# Altium footprint library PCBFootprint_SMD.PcbLib: 197 footprints (part 7 of 13)
Each footprint in its own frame and in the unit in brackets; x right, y up, seen from the top. Pads: shape width x height; smd on the part's side, far side on the other; paste and mask are expansions set on the pad; w line width, h text height; cw(c..) or ccw(c..) is an arc to the next point about the centre after c.
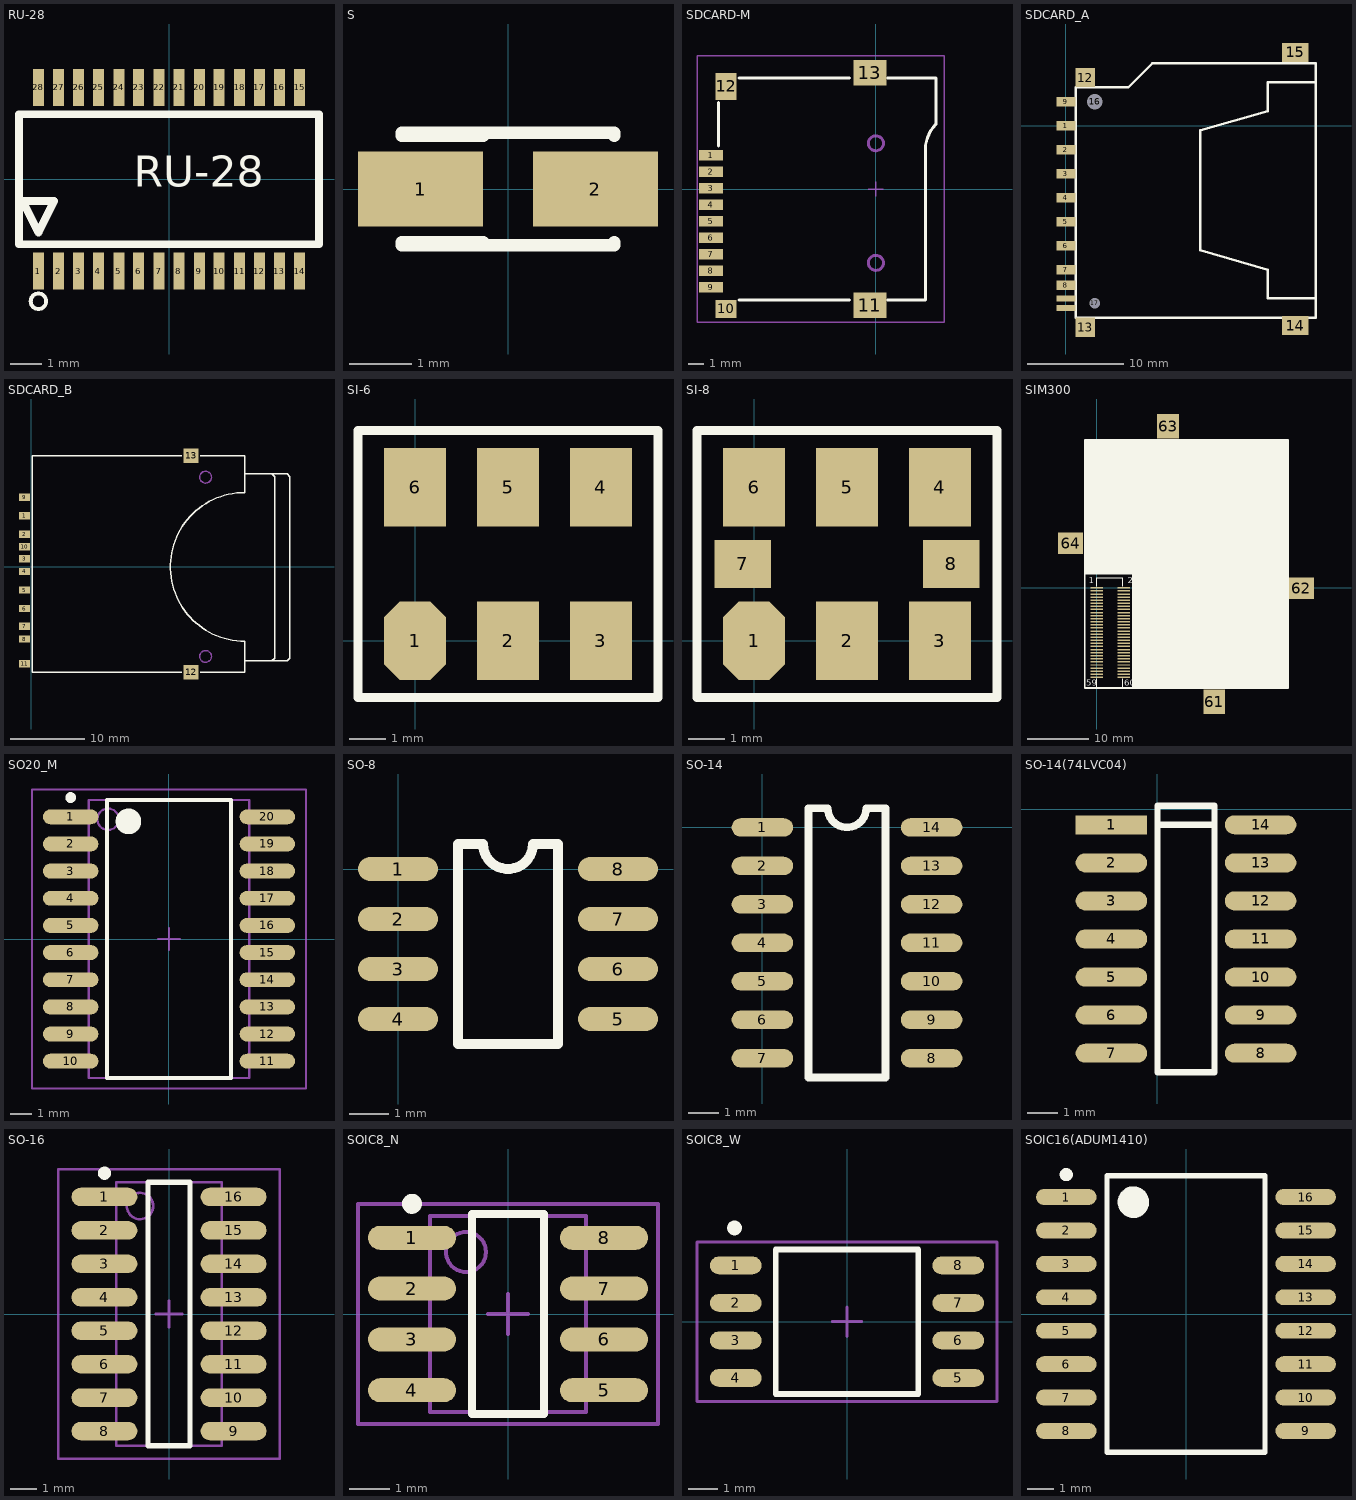
[diagram p6: the footprints below, top view; thin cyan lines are the x and y axes]

## RU-28 [mil]
pads (28):
  rect 14.2x46.9 smd: 1(-166.5,-116.67) 2(-141,-116.67) 3(-115.4,-116.67) 4(-90.2,-116.67) 5(-64.2,-116.67) 6(-39,-116.67) 7(-13,-116.67) 8(12.2,-116.67) 9(38.2,-116.67) 10(63.4,-116.67) 11(89.4,-116.67) 12(114.6,-116.67) 13(140.2,-116.67) 14(165.7,-116.67) 15(165.7,117.13) 16(140.2,117.13) 17(114.6,117.13) 18(89.4,117.13) 19(63.4,117.13) 20(38.2,117.13) 21(12.2,117.13) 22(-13,117.13) 23(-39,117.13) 24(-64.2,117.13) 25(-90.2,117.13) 26(-115.4,117.13) 27(-141,117.13) 28(-166.5,117.13)
Top Overlay:
  lines w5: -176.4,-155.02 cw(c-166.55,-155.02) -156.7,-155.02 cw(c-166.55,-155.02) -176.4,-155.02
  lines w10: -191.3,-82.47 -191.3,82.93 190.5,82.93 190.5,-82.47 -191.3,-82.47 ; -186.6,-27.37 -146.9,-27.37 -166.5,-67.47 -186.6,-27.37
  text "RU-28" at -45,-9 h39.37

## S [mm] "Capacitor, SM Tantalum; Body 3.2 x 1.6 mm (LxW typ)"
height 1.2
pads (2):
  rect 2x1.2 smd: 1(-1.4,0) 2(1.4,0)
Top Overlay:
  lines w0.2: -1.7,-0.9 1.7,-0.9 1.7,-0.85 ; -1.7,-0.85 -0.4,-0.85 ; -1.7,0.85 -0.4,0.85 ; -1.7,0.9 1.7,0.9 1.7,0.85

## SDCARD-M [mm] "TF卡"
height 1.5
pads (13):
  rect 1.6x0.7 smd: 1(-11.008,2.25) 2(-11.008,1.15) 3(-11.008,0.05) 4(-11.008,-1.05) 5(-11.008,-2.15) 6(-11.008,-3.25) 7(-11.008,-4.35) 8(-11.008,-5.45) 9(-11.008,-6.55)
  rect 1.4x1.2 smd: 10(-10,-8.004)
  rect 2.2x1.7 smd: 11(-0.4,-7.75) 13(-0.4,7.75)
  rect 1.4x1.8 smd: 12(-10,6.85)
Top Overlay:
  lines w0.2: -10.5,2.88 -10.5,5.756 ; -9.144,-7.4 -1.778,-7.4 ; -9.144,7.4 -1.778,7.4 ; 0.762,-7.4 3.3,-7.4 3.3,1.016 ; 0.762,7.4 4,7.4 4,4.318 ccw(c5.69,2.628) 3.3,2.628 3.3,0.762
Mechanical 1:
  circle w0.2: c0,3.05 r0.5
  circle w0.2: c0,-4.93 r0.5
Mechanical 15:
  lines w0.1: -0.5,0 0.5,0 ; 0,-0.5 0,0.5 ; -11.938,-8.89 -11.938,8.89 4.572,8.89 4.572,-8.89 -11.938,-8.89

## SDCARD_A [mm] "SD卡不自弹"
pads (17):
  rect 2x1 smd: 1(0,0) 2(0,-2.5) 3(0,-5) 4(0,-7.5) 5(0,-10) 6(0,-12.5) 7(0,-15) 8(0,-16.625) 9(0,2.5)
  rect 2x0.6 smd: 10(0,-19) 11(0,-18)
  rect 2x2 smd: 12(2,5) 13(2,-21)
  rect 2.8x2 smd: 14(23.876,-20.828) 15(23.876,7.62)
  round 1.5 hole 1.6: 16(3,2.5)
  round 1 hole 1.1: 17(3,-18.5)
Top Overlay:
  lines w0.254: 26,-18 21,-18 21,-15 14,-13 14,-0.5 21,1.5 21,4.5 26,4.5 ; 1,-20 26,-20 26,6.5 9,6.5 6.5,4 1,4 1,-20

## SDCARD_B [mm] "SD卡自弹"
pads (13):
  rect 1.5x1 smd: 1(-0.889,6.88) 2(-0.889,4.38) 3(-0.889,1.08) 4(-0.889,-0.63) 5(-0.889,-3.13) 6(-0.889,-5.63) 7(-0.889,-8.05) 8(-0.889,-9.75) 9(-0.889,9.38) 10(-0.889,2.73) 11(-0.889,-13.1)
  rect 2x2 smd: 12(21.59,-14.224) 13(21.59,14.986)
Top Overlay:
  lines w0.2: 20.32,-14.224 0.127,-14.224 0.127,0 0.127,14.986 20.32,14.986 ; 22.86,-14.224 28.829,-14.224 28.829,-10.033 cw(c28.829,0) 28.829,10.033 28.829,14.986 22.86,14.986 ; 28.829,-12.7 32.893,-12.7 34.544,-12.7 34.925,-12.319 34.925,12.192 34.544,12.573 32.893,12.573 28.829,12.573 ; 32.512,-12.7 32.893,-12.319 32.893,12.192 32.512,12.573
Mechanical 1:
  circle w0.2: c23.55,-12.1 r0.8
  circle w0.2: c23.55,12.1 r0.8

## SI-6 [mm]
pads (6):
  oct 1.7x2.15 smd: 1(0,0)
  rect 1.7x2.15 smd: 2(2.54,0) 3(5.08,0) 4(5.08,4.2) 5(2.54,4.2) 6(0,4.2)
Top Overlay:
  lines w0.254: -1.56,-1.55 -1.56,5.75 6.64,5.75 6.64,-1.55 -1.56,-1.55

## SI-8 [mm]
pads (8):
  oct 1.7x2.15 smd: 1(0,0)
  rect 1.7x2.15 smd: 2(2.54,0) 3(5.08,0) 4(5.08,4.2) 5(2.54,4.2) 6(0,4.2)
  rect 1.545x1.3 smd: 7(-0.312,2.1) 8(5.392,2.1)
Top Overlay:
  lines w0.254: -1.56,-1.55 6.64,-1.55 6.64,5.75 -1.56,5.75 -1.56,-1.55

## SIM300 [mm]
pads (64):
  rect 2x0.24 smd: 1(0,0) 2(4.42,0) 3(0,-0.5) 4(4.42,-0.5) 5(0,-1) 6(4.42,-1) 7(0,-1.5) 8(4.42,-1.5) 9(0,-2) 10(4.42,-2) 11(0,-2.5) 12(4.42,-2.5) 13(0,-3) 14(4.42,-3) 15(0,-3.5) 16(4.42,-3.5) 17(0,-4) 18(4.42,-4) 19(0,-4.5) 20(4.42,-4.5) 21(0,-5) 22(4.42,-5) 23(0,-5.5) 24(4.42,-5.5) 25(0,-6) 26(4.42,-6) 27(0,-6.5) 28(4.42,-6.5) 29(0,-7) 30(4.42,-7) 31(0,-7.5) 32(4.42,-7.5) 33(0,-8) 34(4.42,-8) 35(0,-8.5) 36(4.42,-8.5) 37(0,-9) 38(4.42,-9) 39(0,-9.5) 40(4.42,-9.5) 41(0,-10) 42(4.42,-10) 43(0,-10.5) 44(4.42,-10.5) 45(0,-11) 46(4.42,-11) 47(0,-11.5) 48(4.42,-11.5) 49(0,-12) 50(4.42,-12) 51(0,-12.5) 52(4.42,-12.5) 53(0,-13) 54(4.42,-13) 55(0,-13.5) 56(4.42,-13.5) 57(0,-14) 58(4.42,-14) 59(0,-14.5) 60(4.42,-14.5)
  rect 3.5x4 smd: 61(19.04,-18.44) 63(11.575,26.175)
  rect 4x3.5 smd: 62(33.206,-0.06) 64(-4.225,7.25)
Top Overlay:
  rectangle: 5.727,-16.122 30.797,23.629
  rectangle: -1.944,2.166 6.642,23.806
  rectangle: -1.944,22.308 30.95,23.966
  rectangle: 28.181,-16.173 31,22.587
  lines w0.1: 0.056,-14.763 0.056,-16.159 4.256,-16.159 4.256,-14.763 ; 0.056,0.245 0.056,1.641 4.256,1.641 4.256,0.245
  lines w0.254: -1.944,-16.231 31.056,-16.231 31.056,21.463 31.056,23.967 -1.944,23.967 -1.944,21.463 -1.944,-16.231
  text "60" at 4.496,-15.875 h1.02
  text "2" at 5.086,0.753 h1.02
  text "1" at -1.264,0.753 h1.02
  text "59" at -1.651,-15.9 h1.02

## SO20_M [mm] "SOIC, 20-Leads, Body 12.8x7.5mm, Pitch 1.27mm, IPC Low Density"
height 2.65
pads (20):
  oval 2.6x0.7 smd: 1(-4.6,5.715) 2(-4.6,4.445) 3(-4.6,3.175) 4(-4.6,1.905) 5(-4.6,0.635) 6(-4.6,-0.635) 7(-4.6,-1.905) 8(-4.6,-3.175) 9(-4.6,-4.445) 10(-4.6,-5.715) 11(4.6,-5.715) 12(4.6,-4.445) 13(4.6,-3.175) 14(4.6,-1.905) 15(4.6,-0.635) 16(4.6,0.635) 17(4.6,1.905) 18(4.6,3.175) 19(4.6,4.445) 20(4.6,5.715)
Top Overlay:
  circle w0.25: c-4.6,6.615 r0.125
  circle w0.6: c-1.9,5.5 r0.3
  lines w0.2: -2.9,-6.5 -2.9,6.5 2.9,6.5 2.9,-6.5 -2.9,-6.5
Mechanical 13:
  circle w0.1: c-2.85,5.6 r0.5
  lines w0.1: -3.75,-6.5 -3.75,6.5 3.75,6.5 3.75,-6.5 -3.75,-6.5
Mechanical 15:
  lines w0.1: -0.5,0 0.5,0 ; 0,-0.5 0,0.5 ; -6.4,-7 -6.4,7 6.4,7 6.4,-7 -6.4,-7
3D body: height 2.65, standoff 0, extent -3.75,-6.5 3.75,6.5

## SO-8 [mil]
pads (8):
  oval 80x24 smd: 1(0,0) 2(0,-50) 3(0,-100) 4(0,-150) 5(220,-150) 6(220,-100) 7(220,-50) 8(220,0)
Top Overlay:
  lines w10: 60,-175 160,-175 160,25 135,25 cw(c110,25) 85,25 60,25 60,-175

## SO-14 [mil]
pads (14):
  oval 80x24 smd: 1(0,0) 2(0,-50) 3(0,-100) 4(0,-150) 5(0,-200) 6(0,-250) 7(0,-300) 8(220,-300) 9(220,-250) 10(220,-200) 11(220,-150) 12(220,-100) 13(220,-50) 14(220,0)
Top Overlay:
  lines w10: 60,-325 160,-325 160,25 135,25 cw(c110,25) 85,25 60,25 60,-325

## SO-14(74LVC04) [mil]
pads (14):
  rect 94x25 smd: 1(-60,-20.21)
  oval 94x25 smd: 2(-60,-70.21) 3(-60,-120.21) 4(-60,-170.21) 5(-60,-220.21) 6(-60,-270.21) 7(-60,-320.21) 8(136,-320.21) 9(136,-270.21) 10(136,-220.21) 11(136,-170.21) 12(136,-120.21) 13(136,-70.21) 14(136,-20.21)
Top Overlay:
  lines w8: 0.5,-20.21 75.5,-20.21 ; 0.5,-345.21 0.5,4.79 75.5,4.79 75.5,-345.21 0.5,-345.21

## SO-16 [mm] "SOIC, 16-Leads, Body 9.9x3.9mm, Pitch 1.27mm, IPC Low Density"
height 1.75
pads (16):
  oval 2.5x0.7 smd: 1(-2.45,4.445) 2(-2.45,3.175) 3(-2.45,1.905) 4(-2.45,0.635) 5(-2.45,-0.635) 6(-2.45,-1.905) 7(-2.45,-3.175) 8(-2.45,-4.445) 9(2.45,-4.445) 10(2.45,-3.175) 11(2.45,-1.905) 12(2.45,-0.635) 13(2.45,0.635) 14(2.45,1.905) 15(2.45,3.175) 16(2.45,4.445)
Top Overlay:
  circle w0.25: c-2.45,5.345 r0.125
  lines w0.2: -0.8,-5 0.8,-5 0.8,5 -0.8,5 -0.8,-5
Mechanical 13:
  circle w0.1: c-1.1,4.1 r0.5
  lines w0.1: -2,-5 2,-5 2,5 -2,5 -2,-5
Mechanical 15:
  lines w0.1: -0.5,0 0.5,0 ; 0,-0.5 0,0.5 ; -4.2,-5.5 4.2,-5.5 4.2,5.5 -4.2,5.5 -4.2,-5.5
3D body: height 1.75, standoff 0, extent -2,-5 2,5

## SOIC8_N [mm] "8-Pin Small Outline Integrated Circuit Package (SOIC8), IPC Medium Density"
height 1.75
pads (8):
  oval 2.2x0.6 smd: 1(-2.4,1.905) 2(-2.4,0.635) 3(-2.4,-0.635) 4(-2.4,-1.905) 5(2.4,-1.905) 6(2.4,-0.635) 7(2.4,0.635) 8(2.4,1.905)
Top Overlay:
  circle w0.25: c-2.4,2.755 r0.125
  lines w0.2: -0.9,-2.5 -0.9,2.5 0.9,2.5 0.9,-2.5 -0.9,-2.5
Mechanical 13:
  circle w0.1: c-1.05,1.55 r0.5
  lines w0.1: -1.95,-2.45 -1.95,2.45 1.95,2.45 1.95,-2.45 -1.95,-2.45
Mechanical 15:
  lines w0.1: -0.5,0 0.5,0 ; 0,-0.5 0,0.5 ; -3.75,-2.75 -3.75,2.75 3.75,2.75 3.75,-2.75 -3.75,-2.75
3D body: height 1.75, standoff 0, extent -1.95,-2.45 1.95,2.45

## SOIC8_W [mm] "SPI_FLASH"
height 1.75
pads (8):
  oval 1.75x0.6 smd: 1(-3.768,1.905) 2(-3.768,0.635) 3(-3.768,-0.635) 4(-3.768,-1.905) 5(3.768,-1.905) 6(3.768,-0.635) 7(3.768,0.635) 8(3.768,1.905)
Top Overlay:
  circle w0.25: c-3.808,3.175 r0.125
  lines w0.2: -2.413,-2.45 2.413,-2.45 2.413,2.45 -2.413,2.45 -2.413,-2.45
Mechanical 15:
  lines w0.1: -0.5,0 0.5,0 ; 0,-0.5 0,0.5 ; -5.08,-2.7 5.08,-2.7 5.08,2.7 -5.08,2.7 -5.08,-2.7

## SOIC16(ADUM1410) [mm]
pads (16):
  oval 2.3x0.6 smd: 1(-4.55,4.445) 2(-4.55,3.175) 3(-4.55,1.905) 4(-4.55,0.635) 5(-4.55,-0.635) 6(-4.55,-1.905) 7(-4.55,-3.175) 8(-4.55,-4.445) 9(4.55,-4.445) 10(4.55,-3.175) 11(4.55,-1.905) 12(4.55,-0.635) 13(4.55,0.635) 14(4.55,1.905) 15(4.55,3.175) 16(4.55,4.445)
Top Overlay:
  circle w0.25: c-4.55,5.295 r0.125
  circle w0.6: c-2,4.25 r0.3
  lines w0.2: -3,-5.25 -3,5.25 3,5.25 3,-5.25 -3,-5.25